# Altium footprint library PcbLib2.PcbLib: 27 footprints (part 2 of 2)
Each footprint in its own frame and in the unit in brackets; x right, y up, seen from the top. Pads: shape width x height; smd on the part's side, far side on the other; paste and mask are expansions set on the pad; w line width, h text height; cw(c..) or ccw(c..) is an arc to the next point about the centre after c.
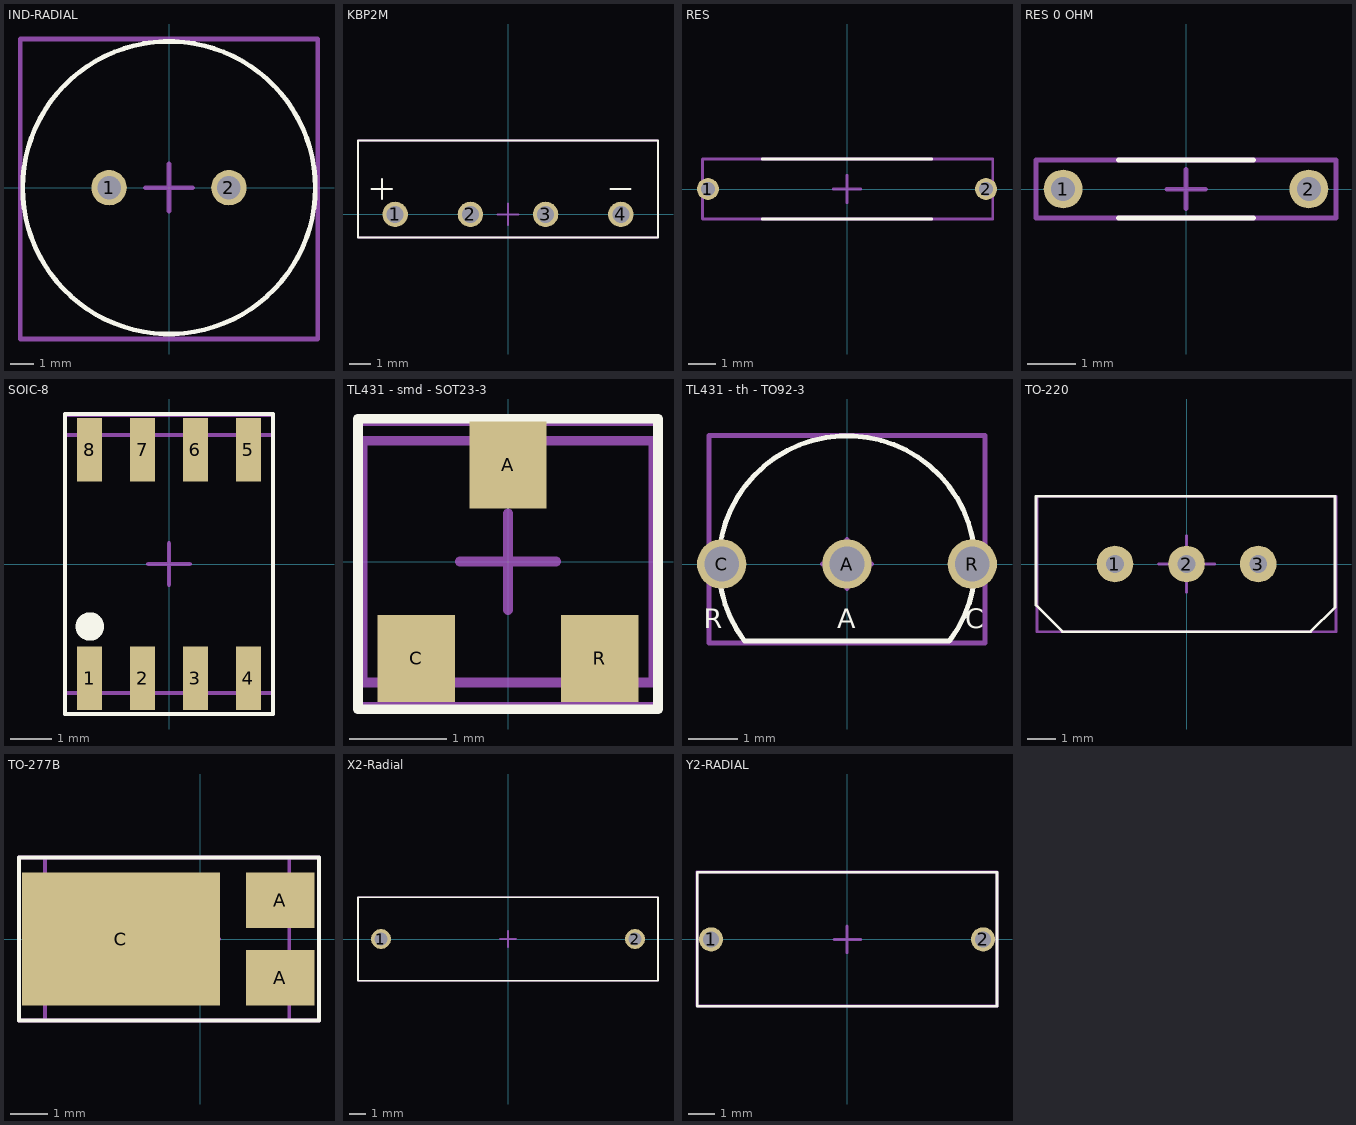
[diagram p1: the footprints below, top view; thin cyan lines are the x and y axes]

## IND-RADIAL [mm]
pads (2):
  round 1.5 hole 1 mask+0.05: 1(-2.54,0) 2(2.54,0)
Top Overlay:
  circle w0.2: c0,0 r6.2
Mechanical 1:
  lines w0.2: -6.3,-6.4 -6.3,6.3 6.3,6.3 6.3,-6.4 -6.3,-6.4
Top Component Center (Mech3):
  lines w0.2: -1,0 1,0 ; 0,-1 0,1 ; -6.3,-6.4 6.3,-6.4 6.3,6.3 -6.3,6.3 -6.3,-6.4
Top Designator:
  lines w0.2: -6.3,-6.411 -6.3,6.3 6.3,6.3 6.3,-6.411 -6.3,-6.411
  text "'.Designator'" at -2.9,-0.4 h0.5
3D body "AIUR-06-682.STEP": height 18.04, standoff -15.87, extent -6.35,-6.35 6.35,6.35

## KBP2M [mm]
pads (4):
  round 1.2 hole 0.8 mask+0.05: 1(-5.34,0) 2(-1.78,0) 3(1.78,0) 4(5.34,0)
Top Overlay:
  lines w0.1: -6.45,1.2 -5.5,1.2 ; -5.956,0.724 -5.956,1.674 ; 4.85,1.2 5.8,1.2 ; -7.1,-1.1 7.1,-1.1 7.1,3.5 -7.1,3.5 -7.1,-1.1
Mechanical 1:
  lines w0.1: -7.1,-1.1 7.1,-1.1 7.1,3.5 -7.1,3.5 -7.1,-1.1
Top Component Center (Mech3):
  lines w0.1: -0.5,0 0.5,0 ; 0,-0.5 0,0.5 ; -7.1,-1.1 -7.1,3.5 7.1,3.5 7.1,-1.1 -7.1,-1.1
Top Designator:
  lines w0.1: -7.1,-1.1 -7.1,3.5 7.1,3.5 7.1,-1.1 -7.1,-1.1
  text "'.Designator'" at -2.9,-0.4 h0.5
3D body "Bridge Rectifier TH - KBP.SLDPRT": height 11.33, standoff -15.58, extent -7.11,-1.085 7.11,3.485

## RES [mm]
pads (2):
  round 0.8 hole 0.5 mask+0.05: 1(-5.08,0) 2(5.08,0)
Top Overlay:
  lines w0.1: -3.1,-1.1 3.1,-1.1 ; -3.1,1.1 3.1,1.1
Mechanical 1:
  lines w0.1: -5.28,-1.1 5.32,-1.1 5.32,1.1 -5.28,1.1 -5.28,-1.1
Top Component Center (Mech3):
  lines w0.1: -0.5,0 0.5,0 ; 0,-0.5 0,0.5 ; -5.28,-1.1 -5.28,1.1 5.32,1.1 5.32,-1.1 -5.28,-1.1
Top Designator:
  lines w0.1: -5.28,-1.1 -5.28,1.1 5.32,1.1 5.32,-1.1 -5.28,-1.1
  text "'.Designator'" at -2.6,-0.5 h0.5
3D body "R1K.SLDPRT": height 2.11, standoff -4, extent -5.31,-1.101 5.35,1.11

## RES 0 OHM [mm]
pads (2):
  round 0.8 hole 0.5 mask+0.05: 1(-2.54,0) 2(2.54,0)
Top Overlay:
  lines w0.1: -1.4,-0.6 1.4,-0.6 ; -1.4,0.6 1.4,0.6
Top Component Center (Mech3):
  lines w0.1: -0.397,-0.004 0.403,-0.004 ; 0,-0.4 0,0.4 ; -3.1,-0.6 3.1,-0.6 3.1,0.6 -3.1,0.6 -3.1,-0.6
Top Designator:
  lines w0.1: -3.1,-0.6 3.1,-0.6 3.1,0.6 -3.1,0.6 -3.1,-0.6
  text "'.Designator'" at -2.9,-0.4 h0.5

## SOIC-8 [mm]
pads (8):
  rect 0.6x1.52 smd mask+0.05: 1(-1.905,-2.74) 2(-0.635,-2.74) 3(0.635,-2.74) 4(1.905,-2.74) 5(1.905,2.74) 6(0.635,2.74) 7(-0.635,2.74) 8(-1.905,2.74)
Top Overlay:
  circle w0.4: c-1.9,-1.5 r0.141
  lines w0.1: -2.5,-3.6 2.5,-3.6 2.5,3.6 -2.5,3.6 -2.5,-3.6
Mechanical 1:
  lines w0.1: -2.5,-3.1 -2.5,3.1 2.5,3.1 2.5,-3.1 -2.5,-3.1
Top Component Center (Mech3):
  lines w0.1: -0.5,0 0.5,0 ; 0,-0.5 0,0.5 ; -2.5,-3.6 2.5,-3.6 2.5,3.575 -2.5,3.575 -2.5,-3.6
Top Designator:
  lines w0.1: -2.5,-3.6 -2.5,3.575 2.5,3.575 2.5,-3.6 -2.5,-3.6
  text "'.Designator'" at -1.1,-0.2 h0.2
3D body "SOIC-8_ONS.step": height 1.77, standoff 0.01, extent -2.502,-3.099 2.502,3.099

## TL431 - smd - SOT23-3 [mm]
pads (3):
  rect 0.8x0.9 smd mask+0.05: A(0,1) C(-0.95,-1) R(0.95,-1)
Top Overlay:
  lines w0.1: -1.55,-1.525 1.55,-1.525 1.55,1.475 -1.55,1.475 -1.55,-1.525
Mechanical 1:
  lines w0.1: -1.5,-1.25 -1.5,1.25 1.5,1.25 1.5,-1.25 -1.5,-1.25
Top Component Center (Mech3):
  lines w0.1: -0.5,0 0.5,0 ; 0,-0.5 0,0.5 ; -1.55,-1.5 1.55,-1.5 1.55,1.45 -1.55,1.45 -1.55,-1.5
Top Designator:
  lines w0.1: -1.55,-1.5 1.55,-1.5 1.55,1.45 -1.55,1.45 -1.55,-1.5
  text "'.Designator'" at -1.1,-0.2 h0.2
3D body "SOT23-3.step": height 1.1, standoff 0, extent -1.5,-1.25 1.5,1.25

## TL431 - th - TO92-3 [mm]
pads (3):
  round 1 hole 0.7 mask+0.05: A(0,0) C(-2.54,0) R(2.54,0)
Top Overlay:
  lines w0.1: 2.068,-1.56 -2.08,-1.56 cw(c0,0) 2.084,-1.554
  text "C" at 2.4,-1.3 h0.4
  text "A" at -0.2,-1.3 h0.4
  text "R" at -2.9,-1.3 h0.4
Mechanical 1:
  lines w0.1: -2.8,-1.6 2.8,-1.6 2.8,2.6 -2.8,2.6 -2.8,-1.6
Top Component Center (Mech3):
  lines w0.1: -0.5,0 0.5,0 ; 0,-0.5 0,0.5 ; -2.8,-1.6 2.8,-1.6 2.8,2.6 -2.8,2.6 -2.8,-1.6
Top Designator:
  lines w0.1: -2.8,-1.6 2.8,-1.6 2.8,2.6 -2.8,2.6 -2.8,-1.6
  text "'.Designator'" at -1.1,-0.2 h0.2
3D body "TO92_2.STEP": height 10.33, standoff -7.2, extent -2.745,-1.6 2.745,2.6

## TO-220 [mm]
pads (3):
  round 1.3 hole 0.63 mask+0.05: 1(-2.54,0) 2(0,0) 3(2.54,0)
Top Overlay:
  lines w0.1: -5.34,-1.46 -5.34,2.4 5.26,2.4 5.26,-1.54 4.4,-2.4 -4.4,-2.4 -5.34,-1.46
Top Component Center (Mech3):
  lines w0.1: -1,0 1,0 ; 0,-1 0,1 ; -5.3,-2.4 -5.3,2.4 5.3,2.4 5.3,-2.4 -5.3,-2.4
Top Designator:
  lines w0.1: -5.3,-2.4 5.3,-2.4 5.3,2.4 -5.3,2.4 -5.3,-2.4
  text "'.Designator'" at -3.1,-0.4 h0.5
3D body "TO-220FP_VIS.step": height 17, standoff -5.2, extent -5.296,-2.4 5.296,2.4

## TO-277B [mm]
pads (3):
  rect 1.85x1.5 smd mask+0.05: A(2.15,-1.05) A(2.15,1.05)
  rect 5.35x3.6 smd mask+0.05: C(-2.15,0)
Top Overlay:
  lines w0.1: -4.9,-2.2 -4.9,2.2 3.2,2.2 3.2,-2.2 -4.9,-2.2
Mechanical 1:
  lines w0.1: -4.2,-2.2 -4.2,2.2 2.4,2.2 2.4,-2.2 -4.2,-2.2
Top Component Center (Mech3):
  lines w0.1: -0.5,0 0.5,0 ; 0,-0.5 0,0.5 ; -4.9,-2.2 -4.9,2.2 3.2,2.2 3.2,-2.2 -4.9,-2.2
Top Designator:
  lines w0.1: -4.9,-2.2 -4.9,2.2 3.2,2.2 3.2,-2.2 -4.9,-2.2
  text "'.Designator'" at -1.1,-0.2 h0.2
3D body "TO-277B, CFP15B, SOT1289B SMD package, no marking.stp": height 0.75, standoff 0.01, extent -4.175,-2.201 2.425,2.199

## X2-Radial [mm]
pads (2):
  round 1.2 hole 0.8 mask+0.05: 1(-7.62,0) 2(7.62,0)
Top Overlay:
  lines w0.1: -9,-2.5 9,-2.5 9,2.5 -9,2.5 -9,-2.5
Mechanical 1:
  lines w0.1: -9,-2.5 -9,2.5 9,2.5 9,-2.5 -9,-2.5
Top Component Center (Mech3):
  lines w0.1: -0.5,0 0.5,0 ; 0,-0.5 0,0.5 ; -9,-2.5 -9,2.5 9,2.5 9,-2.5 -9,-2.5
Top Designator:
  lines w0.1: -9,-2.5 9,-2.5 9,2.5 -9,2.5 -9,-2.5
  text "'.Designator'" at -3.1,-0.4 h0.5
3D body "Film Capacitor 18x5x11mm.step": height 11.01, standoff -2.49, extent -9,-2.5 9,2.5

## Y2-RADIAL [mm]
pads (2):
  round 0.9 hole 0.6 mask+0.05: 1(-5.08,0) 2(5.08,0)
Top Overlay:
  lines w0.1: -5.6,-2.5 5.6,-2.5 5.6,2.5 -5.6,2.5 -5.6,-2.5
Mechanical 1:
  lines w0.1: -5.606,-2.477 5.594,-2.477 5.594,2.523 -5.606,2.523 -5.606,-2.477
Top Component Center (Mech3):
  lines w0.1: -0.488,-0.009 0.512,-0.009 ; 0,-0.5 0,0.5 ; -5.6,-2.5 -5.6,2.5 5.6,2.5 5.6,-2.5 -5.6,-2.5
Top Designator:
  lines w0.1: -5.6,-2.5 5.6,-2.5 5.6,2.5 -5.6,2.5 -5.6,-2.5
  text "'.Designator'" at -3.1,-0.4 h0.5
3D body "C731U222MZWDAA7317.step": height 15, standoff -22.62, extent -5.6,-2.505 5.6,2.5